# Altium footprint library LM1117.PcbLib: 1 footprints
Each footprint in its own frame and in the unit in brackets; x right, y up, seen from the top. Pads: shape width x height; smd on the part's side, far side on the other; paste and mask are expansions set on the pad; w line width, h text height; cw(c..) or ccw(c..) is an arc to the next point about the centre after c.
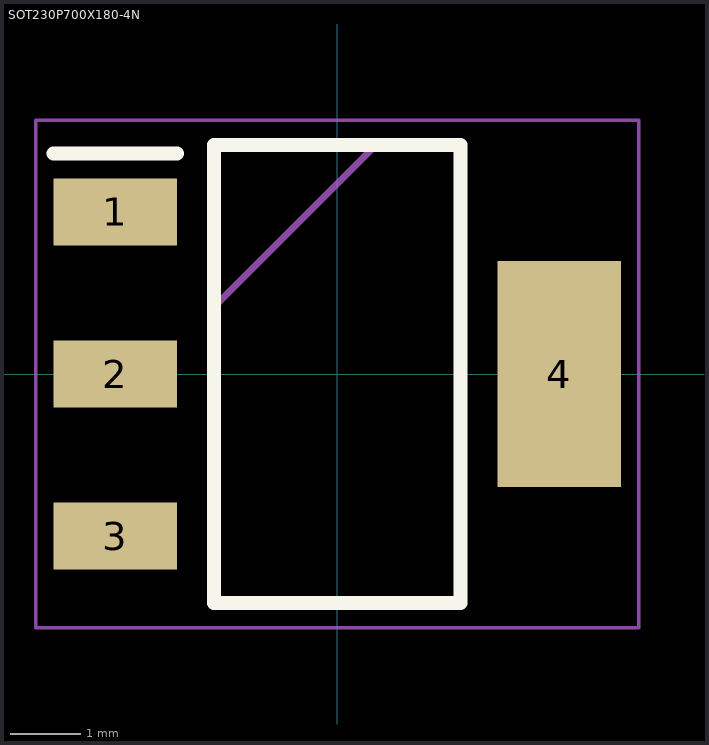
[diagram p0: the footprint, top view; thin cyan lines are the x and y axes]

## SOT230P700X180-4N [mm]
pads (4):
  rect 1.75x0.95 smd: 1(-3.15,2.3) 2(-3.15,0) 3(-3.15,-2.3)
  rect 1.75x3.2 smd: 4(3.15,0)
Top Overlay:
  lines w0.2: -4.025,3.125 -2.275,3.125 ; -1.75,-3.25 1.75,-3.25 1.75,3.25 -1.75,3.25 -1.75,-3.25
Mechanical 13:
  lines w0.1: -1.75,0.95 0.55,3.25 ; -1.75,-3.25 1.75,-3.25 1.75,3.25 -1.75,3.25 -1.75,-3.25
Mechanical 15:
  lines w0.05: -4.275,-3.6 4.275,-3.6 4.275,3.6 -4.275,3.6 -4.275,-3.6
3D body "SOT223-3.step": height 1.65, standoff -0.03, extent -3.48,-3.25 3.48,3.25